# Altium integrated library Infineon_Power_MOSFET.IntLib: 1448 symbols (part 37 of 47)
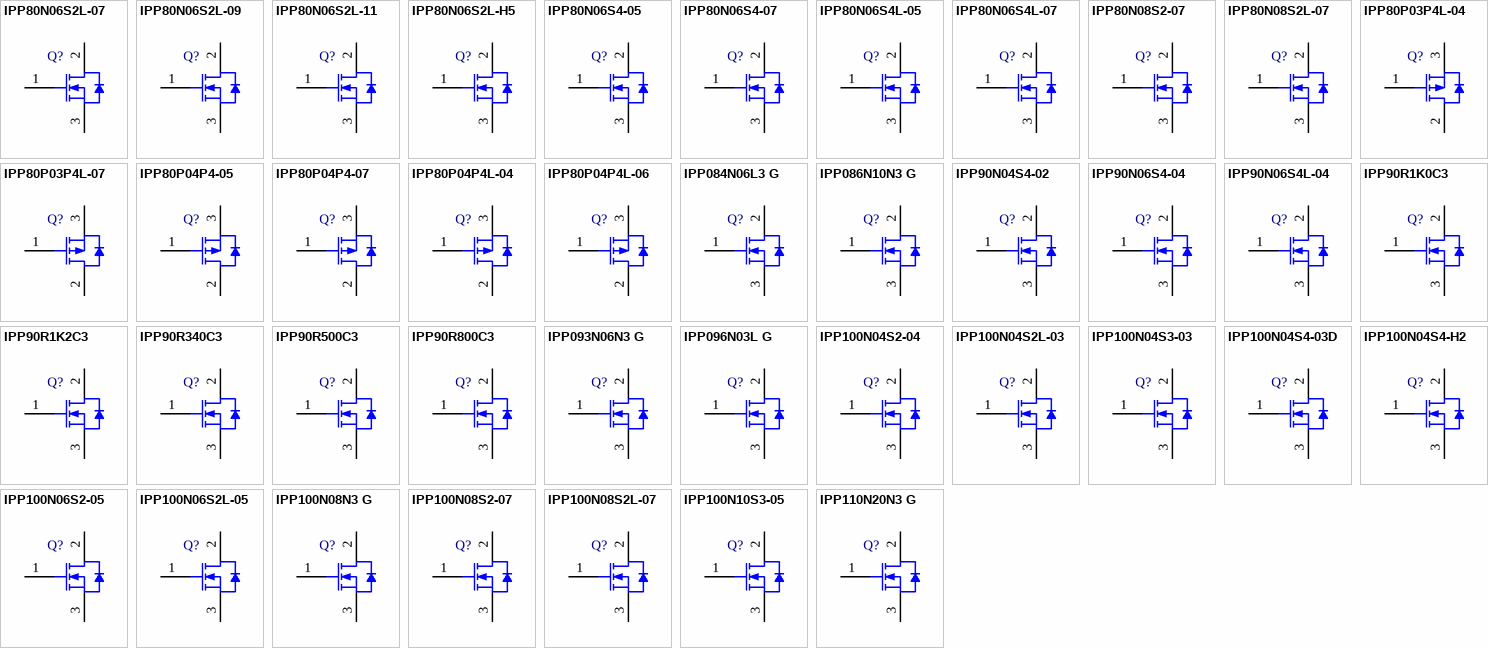
[diagram p73: symbols IPP80N06S2L-07 to IPP110N20N3 G]

## IPP80N06S2L-11
designator Q?
OptiMOS Power-Transistor, 55 V VDS, 80 A ID, PG-TO220-3-1, Tube, Green; Manufacturer: Infineon; PartNumber: IPP80N06S2L-11; Green: TRUE; ID (max): 80 A; IDpuls (max): 320 A; Ptot (max): 158 W; QG: 62 nC; RDS (on) (max) (@10V): 11 mOhm; RDS (on) (max) (@4.5V): 14.7 mOhm; RthJC (max): 0.95 K/W; VDS (max): 55 V; VGS(th) (max): 2 V; VGS(th) (min): 1.2 V; DatasheetVersion: Rev. 1.1; PackageVersion: Jul-12; PackageReference: PG-TO220-3-1; PackageDescription: 3-Pin Plastic (Green) Transistor Single Outline Package, 10 x 9.25 mm Body, 2.54 mm Pitch; Supplier 1: Mouser; Supplier Part Number 1: 726-IPP80N06S2L11; Supplier 2: Digi-Key; Supplier Part Number 2: IPP80N06S2L-11-ND; Halogen-free: TRUE; Packing: Tube; Technology: OptiMOS; Mounting Technology: Through Hole; ComponentLink1Description: Manufacturer URL; ComponentLink1URL: http://www.infineon.com/; ComponentLink2Description: Datasheet; ComponentLink2URL: http://www.infineon.com/dgdl/IPP_B_I80N06S2L-11_DS_1_1.pdf?folderId=db3a304412b407950112b426db703ad9&fileId=db3a304412b407950112b4333e375ac6&location=en.Products.Automotive_ICs.Automotive_MOSFETs.Single__N-Channel_55V_MOSFETs.DATASHEET.IPP_B_I80N06S2L-11_DS_1_1.pdf; ComponentLink3Description: Package Specification; ComponentLink3URL: http://www.infineon.com/dgdl/BTS117_DS_14.pdf?folderId=db3a30431400ef68011421b54e2e0564&fileId=db3a30433a747525013abff8302d549c&location=en.Products.Automotive_ICs.Smart_High-_and_Low-Side_Switches.HITFET___TEMPFET__-_Smart_Low-Side_Switches.DATASHEET.BTS117_DS_14.pdf
footprint INF-PG-TO220-3-1 (FM, 3-Leads, Body 10x4.4mm, Pitch 2.54mm)
pins: 1 GATE, 2 DRAIN, 3 SOURCE

## IPP80N06S2L-H5
designator Q?
OptiMOS Power-Transistor, 55 V VDS, 80 A ID, PG-TO220-3-1, Tube, Green; Manufacturer: Infineon; PartNumber: IPP80N06S2L-H5; Green: TRUE; ID (max): 80 A; IDpuls (max): 320 A; Ptot (max): 300 W; QG: 145 nC; RDS (on) (max) (@10V): 5 mOhm; RDS (on) (max) (@4.5V): 6.5 mOhm; RthJC (max): 0.5 K/W; VDS (max): 55 V; VGS(th) (max): 2 V; VGS(th) (min): 1.2 V; DatasheetVersion: Rev. 1.0; PackageVersion: Jul-12; PackageReference: PG-TO220-3-1; PackageDescription: 3-Pin Plastic (Green) Transistor Single Outline Package, 10 x 9.25 mm Body, 2.54 mm Pitch; Supplier 1: Mouser; Supplier Part Number 1: 726-IPP80N06S2LH5; Supplier 2: Digi-Key; Supplier Part Number 2: IPP80N06S2L-H5-ND; Halogen-free: TRUE; Packing: Tube; Technology: OptiMOS; Mounting Technology: Through Hole; ComponentLink1Description: Manufacturer URL; ComponentLink1URL: http://www.infineon.com/; ComponentLink2Description: Datasheet; ComponentLink2URL: http://www.infineon.com/dgdl/IPP_B80N06S2L-H5_green.pdf?folderId=db3a304412b407950112b426db703ad9&fileId=db3a304412b407950112b43338b15aa9&location=en.Products.Automotive_ICs.Automotive_MOSFETs.Single__N-Channel_55V_MOSFETs.DATASHEET.IPP_B80N06S2L-H5_green.pdf; ComponentLink3Description: Package Specification; ComponentLink3URL: http://www.infineon.com/dgdl/BTS117_DS_14.pdf?folderId=db3a30431400ef68011421b54e2e0564&fileId=db3a30433a747525013abff8302d549c&location=en.Products.Automotive_ICs.Smart_High-_and_Low-Side_Switches.HITFET___TEMPFET__-_Smart_Low-Side_Switches.DATASHEET.BTS117_DS_14.pdf
footprint INF-PG-TO220-3-1 (FM, 3-Leads, Body 10x4.4mm, Pitch 2.54mm)
pins: 1 GATE, 2 DRAIN, 3 SOURCE

## IPP80N06S4-05
designator Q?
OptiMOS-T2 Power-Transistor, 60 V VDS, 80 A ID, PG-TO220-3-1, Tube, Green; Manufacturer: Infineon; PartNumber: IPP80N06S4-05; Green: TRUE; ID (max): 80 A; IDpuls (max): 320 A; Ptot (max): 107 W; QG: 62 nC; RDS (on) (max) (@10V): 5.7 mOhm; RthJC (max): 1.4 K/W; VDS (max): 60 V; VGS(th) (max): 4 V; VGS(th) (min): 2 V; DatasheetVersion: Rev. 1.0; PackageVersion: Jul-12; PackageReference: PG-TO220-3-1; PackageDescription: 3-Pin Plastic (Green) Transistor Single Outline Package, 10 x 9.25 mm Body, 2.54 mm Pitch; Supplier 1: Mouser; Supplier Part Number 1: 726-IPP80N06S4-05; Supplier 2: Digi-Key; Supplier Part Number 2: IPP80N06S4-05-ND; Halogen-free: TRUE; Packing: Tube; Technology: OptiMOS-T2; Mounting Technology: Through Hole; ComponentLink1Description: Manufacturer URL; ComponentLink1URL: http://www.infineon.com/; ComponentLink2Description: Datasheet; ComponentLink2URL: http://www.infineon.com/dgdl/IPP_B_I80N06S4-05_DS_10.pdf?folderId=db3a30431a5c32f2011a8084a04a6500&fileId=db3a30431ff98815012038d4d5340cec&location=en.Products.Automotive_ICs.Automotive_MOSFETs.Single__N-Channel_60V_MOSFETs.DATASHEET.IPP_B_I80N06S4-05_DS_10.pdf; ComponentLink3Description: Package Specification; ComponentLink3URL: http://www.infineon.com/dgdl/BTS117_DS_14.pdf?folderId=db3a30431400ef68011421b54e2e0564&fileId=db3a30433a747525013abff8302d549c&location=en.Products.Automotive_ICs.Smart_High-_and_Low-Side_Switches.HITFET___TEMPFET__-_Smart_Low-Side_Switches.DATASHEET.BTS117_DS_14.pdf
footprint INF-PG-TO220-3-1 (FM, 3-Leads, Body 10x4.4mm, Pitch 2.54mm)
pins: 1 GATE, 2 DRAIN, 3 SOURCE

## IPP80N06S4-07
designator Q?
OptiMOS-T2 Power-Transistor, 60 V VDS, 80 A ID, PG-TO220-3-1, Tube, Green; Manufacturer: Infineon; PartNumber: IPP80N06S4-07; Green: TRUE; ID (max): 80 A; IDpuls (max): 320 A; Ptot (max): 79 W; QG: 43 nC; RDS (on) (max) (@10V): 7.4 mOhm; RthJC (max): 1.9 K/W; VDS (max): 60 V; VGS(th) (max): 4 V; VGS(th) (min): 2 V; DatasheetVersion: Rev. 1.0; PackageVersion: Jul-12; PackageReference: PG-TO220-3-1; PackageDescription: 3-Pin Plastic (Green) Transistor Single Outline Package, 10 x 9.25 mm Body, 2.54 mm Pitch; Supplier 1: Mouser; Supplier Part Number 1: 726-IPP80N06S4-07; Supplier 2: Digi-Key; Supplier Part Number 2: IPP80N06S4-07-ND; Halogen-free: TRUE; Packing: Tube; Technology: OptiMOS-T2; Mounting Technology: Through Hole; ComponentLink1Description: Manufacturer URL; ComponentLink1URL: http://www.infineon.com/; ComponentLink2Description: Datasheet; ComponentLink2URL: http://www.infineon.com/dgdl/IPP_B_I80N06S4-07_DS_10.pdf?folderId=db3a30431a5c32f2011a8084a04a6500&fileId=db3a30431ff98815012038dc68c00cf5&location=en.Products.Automotive_ICs.Automotive_MOSFETs.Single__N-Channel_60V_MOSFETs.DATASHEET.IPP_B_I80N06S4-07_DS_10.pdf; ComponentLink3Description: Package Specification; ComponentLink3URL: http://www.infineon.com/dgdl/BTS117_DS_14.pdf?folderId=db3a30431400ef68011421b54e2e0564&fileId=db3a30433a747525013abff8302d549c&location=en.Products.Automotive_ICs.Smart_High-_and_Low-Side_Switches.HITFET___TEMPFET__-_Smart_Low-Side_Switches.DATASHEET.BTS117_DS_14.pdf
footprint INF-PG-TO220-3-1 (FM, 3-Leads, Body 10x4.4mm, Pitch 2.54mm)
pins: 1 GATE, 2 DRAIN, 3 SOURCE

## IPP80N06S4L-05
designator Q?
OptiMOS-T2 Power-Transistor, 60 V VDS, 80 A ID, PG-TO220-3-1, Tube, Green; Manufacturer: Infineon; PartNumber: IPP80N06S4L-05; Green: TRUE; ID (max): 80 A; IDpuls (max): 320 A; Ptot (max): 107 W; QG: 83 nC; RDS (on) (max) (@10V): 4.8 mOhm; RDS (on) (max) (@4.5V): 8.5 mOhm; RthJC (max): 1.4 K/W; VDS (max): 60 V; VGS(th) (max): 2 V; VGS(th) (min): 1.2 V; DatasheetVersion: Rev. 1.0; PackageVersion: Jul-12; PackageReference: PG-TO220-3-1; PackageDescription: 3-Pin Plastic (Green) Transistor Single Outline Package, 10 x 9.25 mm Body, 2.54 mm Pitch; Supplier 1: Mouser; Supplier Part Number 1: 726-IPP80N06S4L-05; Supplier 2: Digi-Key; Supplier Part Number 2: IPP80N06S4L-05-ND; Halogen-free: TRUE; Packing: Tube; Technology: OptiMOS-T2; Mounting Technology: Through Hole; ComponentLink1Description: Manufacturer URL; ComponentLink1URL: http://www.infineon.com/; ComponentLink2Description: Datasheet; ComponentLink2URL: http://www.infineon.com/dgdl/IPP_B_I80N06S4L-05_DS_10.pdf?folderId=db3a30431a5c32f2011a8084a04a6500&fileId=db3a30431ff98815012038e65fed0d07&location=en.Products.Automotive_ICs.Automotive_MOSFETs.Single__N-Channel_60V_MOSFETs.DATASHEET.IPP_B_I80N06S4L-05_DS_10.pdf; ComponentLink3Description: Package Specification; ComponentLink3URL: http://www.infineon.com/dgdl/BTS117_DS_14.pdf?folderId=db3a30431400ef68011421b54e2e0564&fileId=db3a30433a747525013abff8302d549c&location=en.Products.Automotive_ICs.Smart_High-_and_Low-Side_Switches.HITFET___TEMPFET__-_Smart_Low-Side_Switches.DATASHEET.BTS117_DS_14.pdf
footprint INF-PG-TO220-3-1 (FM, 3-Leads, Body 10x4.4mm, Pitch 2.54mm)
pins: 1 GATE, 2 DRAIN, 3 SOURCE

## IPP80N06S4L-07
designator Q?
OptiMOS-T2 Power-Transistor, 60 V VDS, 80 A ID, PG-TO220-3-1, Tube, Green; Manufacturer: Infineon; PartNumber: IPP80N06S4L-07; Green: TRUE; ID (max): 80 A; IDpuls (max): 320 A; Ptot (max): 79 W; QG: 58 nC; RDS (on) (max) (@10V): 6.4 mOhm; RDS (on) (max) (@4.5V): 11.3 mOhm; RthJC (max): 1.9 K/W; VDS (max): 60 V; VGS(th) (max): 2 V; VGS(th) (min): 1.2 V; DatasheetVersion: Rev. 1.0; PackageVersion: Jul-12; PackageReference: PG-TO220-3-1; PackageDescription: 3-Pin Plastic (Green) Transistor Single Outline Package, 10 x 9.25 mm Body, 2.54 mm Pitch; Supplier 1: Mouser; Supplier Part Number 1: 726-IPP80N06S4L-07; Supplier 2: Digi-Key; Supplier Part Number 2: IPP80N06S4L-07-ND; Halogen-free: TRUE; Packing: Tube; Technology: OptiMOS-T2; Mounting Technology: Through Hole; ComponentLink1Description: Manufacturer URL; ComponentLink1URL: http://www.infineon.com/; ComponentLink2Description: Datasheet; ComponentLink2URL: http://www.infineon.com/dgdl/IPP_B_I80N06S4L-07_DS_10.pdf?folderId=db3a304320d39d590121aa3a89831c7f&fileId=db3a304320d39d590121aa3ae68d1c80&location=en.Products.Automotive_ICs.Automotive_MOSFETs.Single__N-Channel_60V_MOSFETs.DATASHEET.IPP_B_I80N06S4L-07_DS_10.pdf; ComponentLink3Description: Package Specification; ComponentLink3URL: http://www.infineon.com/dgdl/BTS117_DS_14.pdf?folderId=db3a30431400ef68011421b54e2e0564&fileId=db3a30433a747525013abff8302d549c&location=en.Products.Automotive_ICs.Smart_High-_and_Low-Side_Switches.HITFET___TEMPFET__-_Smart_Low-Side_Switches.DATASHEET.BTS117_DS_14.pdf
footprint INF-PG-TO220-3-1 (FM, 3-Leads, Body 10x4.4mm, Pitch 2.54mm)
pins: 1 GATE, 2 DRAIN, 3 SOURCE

## IPP80N08S2-07
designator Q?
OptiMOS Power-Transistor, 75 V VDS, 80 A ID, PG-TO220-3-1, Tube, Green; Manufacturer: Infineon; PartNumber: IPP80N08S2-07; Green: TRUE; ID (max): 80 A; IDpuls (max): 320 A; Ptot (max): 300 W; QG: 144 nC; RDS (on) (max) (@10V): 7.4 mOhm; RthJC (max): 0.5 K/W; VDS (max): 75 V; VGS(th) (max): 4 V; VGS(th) (min): 2.1 V; DatasheetVersion: Rev. 1.0; PackageVersion: Jul-12; PackageReference: PG-TO220-3-1; PackageDescription: 3-Pin Plastic (Green) Transistor Single Outline Package, 10 x 9.25 mm Body, 2.54 mm Pitch; Supplier 1: Mouser; Supplier Part Number 1: 726-IPP80N08S207; Supplier 2: Digi-Key; Supplier Part Number 2: IPP80N08S2-07-ND; Halogen-free: TRUE; Packing: Tube; Technology: OptiMOS; Mounting Technology: Through Hole; ComponentLink1Description: Manufacturer URL; ComponentLink1URL: http://www.infineon.com/; ComponentLink2Description: Datasheet; ComponentLink2URL: http://www.infineon.com/dgdl/IPP_B_I80N08S2-07_green.pdf?folderId=db3a304412b407950112b408e8c90004&fileId=db3a304412b407950112b426df983adf&location=en.Products.Automotive_ICs.Automotive_MOSFETs.Single__N-Channel_75V_MOSFETs.DATASHEET.IPP_B_I80N08S2-07_green.pdf; ComponentLink3Description: Package Specification; ComponentLink3URL: http://www.infineon.com/dgdl/BTS117_DS_14.pdf?folderId=db3a30431400ef68011421b54e2e0564&fileId=db3a30433a747525013abff8302d549c&location=en.Products.Automotive_ICs.Smart_High-_and_Low-Side_Switches.HITFET___TEMPFET__-_Smart_Low-Side_Switches.DATASHEET.BTS117_DS_14.pdf
footprint INF-PG-TO220-3-1 (FM, 3-Leads, Body 10x4.4mm, Pitch 2.54mm)
pins: 1 GATE, 2 DRAIN, 3 SOURCE

## IPP80N08S2L-07
designator Q?
OptiMOS Power-Transistor, 75 V VDS, 80 A ID, PG-TO220-3-1, Tube, Green; Manufacturer: Infineon; PartNumber: IPP80N08S2L-07; Green: TRUE; ID (max): 80 A; IDpuls (max): 320 A; Ptot (max): 300 W; QG: 183 nC; RDS (on) (max) (@10V): 7.1 mOhm; RDS (on) (max) (@4.5V): 9.0 mOhm; RthJC (max): 0.5 K/W; VDS (max): 75 V; VGS(th) (max): 2 V; VGS(th) (min): 1.2 V; DatasheetVersion: Rev. 1.0; PackageVersion: Jul-12; PackageReference: PG-TO220-3-1; PackageDescription: 3-Pin Plastic (Green) Transistor Single Outline Package, 10 x 9.25 mm Body, 2.54 mm Pitch; Supplier 1: Mouser; Supplier Part Number 1: 726-IPP80N08S2L07; Supplier 2: Digi-Key; Supplier Part Number 2: IPP80N08S2L-07-ND; Halogen-free: TRUE; Packing: Tube; Technology: OptiMOS; Mounting Technology: Through Hole; ComponentLink1Description: Manufacturer URL; ComponentLink1URL: http://www.infineon.com/; ComponentLink2Description: Datasheet; ComponentLink2URL: http://www.infineon.com/dgdl/IPP_B80N08S2L-07_green.pdf?folderId=db3a304412b407950112b408e8c90004&fileId=db3a304412b407950112b426e2333ae3&location=en.Products.Automotive_ICs.Automotive_MOSFETs.Single__N-Channel_75V_MOSFETs.DATASHEET.IPP_B80N08S2L-07_green.pdf; ComponentLink3Description: Package Specification; ComponentLink3URL: http://www.infineon.com/dgdl/BTS117_DS_14.pdf?folderId=db3a30431400ef68011421b54e2e0564&fileId=db3a30433a747525013abff8302d549c&location=en.Products.Automotive_ICs.Smart_High-_and_Low-Side_Switches.HITFET___TEMPFET__-_Smart_Low-Side_Switches.DATASHEET.BTS117_DS_14.pdf
footprint INF-PG-TO220-3-1 (FM, 3-Leads, Body 10x4.4mm, Pitch 2.54mm)
pins: 1 GATE, 2 DRAIN, 3 SOURCE

## IPP80P03P4L-04
designator Q?
OptiMOS-P2 Power-Transistor, -30 V VDS, -80 A ID, PG-TO220-3-1, Tube, Green; Manufacturer: Infineon; PartNumber: IPP80P03P4L-04; Green: TRUE; ID (max): -80 A; IDpuls (max): -320 A; Ptot (max): 137 W; QG: 125 nC; RDS (on) (max) (@10V): 4.4 mOhm; RDS (on) (max) (@4.5V): 7 mOhm; RthJC (max): 1.1 K/W; VDS (max): -30 V; VGS(th) (max): -2 V; VGS(th) (min): -1 V; DatasheetVersion: Rev. 1.0; PackageVersion: Jul-12; PackageReference: PG-TO220-3-1; PackageDescription: 3-Pin Plastic (Green) Transistor Single Outline Package, 10 x 9.25 mm Body, 2.54 mm Pitch; Supplier 1: Mouser; Supplier Part Number 1: 726-IPP80P03P4L-04; Supplier 2: Digi-Key; Supplier Part Number 2: IPP80P03P4L-04-ND; Halogen-free: TRUE; Packing: Tube; Technology: OptiMOS-P2; Mounting Technology: Through Hole; ComponentLink1Description: Manufacturer URL; ComponentLink1URL: http://www.infineon.com/; ComponentLink2Description: Datasheet; ComponentLink2URL: http://www.infineon.com/dgdl/IPP_B_I80P03P4L-04_DS_10.pdf?folderId=db3a304314dca3890114ef902baa05f9&fileId=db3a30431ddc9372011e07e95eb827d7&location=en.Products.Automotive_ICs.Automotive_MOSFETs.Single__P-Channel_30V_MOSFETs.DATASHEET.IPP_B_I80P03P4L-04_DS_10.pdf; ComponentLink3Description: Package Specification; ComponentLink3URL: http://www.infineon.com/dgdl/BTS117_DS_14.pdf?folderId=db3a30431400ef68011421b54e2e0564&fileId=db3a30433a747525013abff8302d549c&location=en.Products.Automotive_ICs.Smart_High-_and_Low-Side_Switches.HITFET___TEMPFET__-_Smart_Low-Side_Switches.DATASHEET.BTS117_DS_14.pdf
footprint INF-PG-TO220-3-1 (FM, 3-Leads, Body 10x4.4mm, Pitch 2.54mm)
pins: 1 GATE, 2 DRAIN, 3 SOURCE

## IPP80P03P4L-07
designator Q?
OptiMOS-P2 Power-Transistor, -30 V VDS, -80 A ID, PG-TO220-3-1, Tube, Green; Manufacturer: Infineon; PartNumber: IPP80P03P4L-07; Green: TRUE; ID (max): -80 A; IDpuls (max): -320 A; Ptot (max): 88 W; QG: 63 nC; RDS (on) (max) (@10V): 7.2 mOhm; RDS (on) (max) (@4.5V): 12.3 mOhm; RthJC (max): 1.7 K/W; VDS (max): -30 V; VGS(th) (max): -2 V; VGS(th) (min): -1 V; DatasheetVersion: Rev. 1.0; PackageVersion: Jul-12; PackageReference: PG-TO220-3-1; PackageDescription: 3-Pin Plastic (Green) Transistor Single Outline Package, 10 x 9.25 mm Body, 2.54 mm Pitch; Supplier 1: Mouser; Supplier Part Number 1: 726-IPP80P03P4L-07; Supplier 2: Digi-Key; Supplier Part Number 2: IPP80P03P4L-07-ND; Halogen-free: TRUE; Packing: Tube; Technology: OptiMOS-P2; Mounting Technology: Through Hole; ComponentLink1Description: Manufacturer URL; ComponentLink1URL: http://www.infineon.com/; ComponentLink2Description: Datasheet; ComponentLink2URL: http://www.infineon.com/dgdl/IPP_B_I80P03P4L-07_DS_10.pdf?folderId=db3a304314dca3890114ef902baa05f9&fileId=db3a30431ddc9372011e07ed65b827fd&location=en.Products.Automotive_ICs.Automotive_MOSFETs.Single__P-Channel_30V_MOSFETs.DATASHEET.IPP_B_I80P03P4L-07_DS_10.pdf; ComponentLink3Description: Package Specification; ComponentLink3URL: http://www.infineon.com/dgdl/BTS117_DS_14.pdf?folderId=db3a30431400ef68011421b54e2e0564&fileId=db3a30433a747525013abff8302d549c&location=en.Products.Automotive_ICs.Smart_High-_and_Low-Side_Switches.HITFET___TEMPFET__-_Smart_Low-Side_Switches.DATASHEET.BTS117_DS_14.pdf
footprint INF-PG-TO220-3-1 (FM, 3-Leads, Body 10x4.4mm, Pitch 2.54mm)
pins: 1 GATE, 2 DRAIN, 3 SOURCE

## IPP80P04P4-05
designator Q?
OptiMOS-P2 Power-Transistor, -40 V VDS, -80 A ID, PG-TO220-3-1, Tube, Green; Manufacturer: Infineon; PartNumber: IPP80P04P4-05; Green: TRUE; ID (max): -80 A; IDpuls (max): -320 A; Ptot (max): 125 W; QG: 116 nC; RDS (on) (max) (@10V): 5.2 mOhm; RthJC (max): 1.2 K/W; VDS (max): -40 V; VGS(th) (max): -4 V; VGS(th) (min): -2 V; DatasheetVersion: Rev. 1.0; PackageVersion: Jul-12; PackageReference: PG-TO220-3-1; PackageDescription: 3-Pin Plastic (Green) Transistor Single Outline Package, 10 x 9.25 mm Body, 2.54 mm Pitch; Supplier 1: Mouser; Supplier Part Number 1: 726-IPP80P04P4-05; Halogen-free: TRUE; Packing: Tube; Technology: OptiMOS-P2; Mounting Technology: Through Hole; ComponentLink1Description: Manufacturer URL; ComponentLink1URL: http://www.infineon.com/; ComponentLink2Description: Datasheet; ComponentLink2URL: http://www.infineon.com/dgdl/IPP_B_I80P04P4-05_DS_10.pdf?folderId=db3a304412b407950112b42b75b74520&fileId=db3a30432f69f146012f7833bcf12e3a&location=en.Products.Automotive_ICs.Automotive_MOSFETs.Single__P-Channel_40V_MOSFETs.DATASHEET.IPP_B_I80P04P4-05_DS_10.pdf; ComponentLink3Description: Package Specification; ComponentLink3URL: http://www.infineon.com/dgdl/BTS117_DS_14.pdf?folderId=db3a30431400ef68011421b54e2e0564&fileId=db3a30433a747525013abff8302d549c&location=en.Products.Automotive_ICs.Smart_High-_and_Low-Side_Switches.HITFET___TEMPFET__-_Smart_Low-Side_Switches.DATASHEET.BTS117_DS_14.pdf
footprint INF-PG-TO220-3-1 (FM, 3-Leads, Body 10x4.4mm, Pitch 2.54mm)
pins: 1 GATE, 2 DRAIN, 3 SOURCE

## IPP80P04P4-07
designator Q?
OptiMOS-P2 Power-Transistor, -40 V VDS, -80 A ID, PG-TO220-3-1, Tube, Green; Manufacturer: Infineon; PartNumber: IPP80P04P4-07; Green: TRUE; ID (max): -80 A; IDpuls (max): -320 A; Ptot (max): 88 W; QG: 68 nC; RDS (on) (max) (@10V): 7.7 mOhm; RthJC (max): 1.7 K/W; VDS (max): -40 V; VGS(th) (max): -4 V; VGS(th) (min): -2 V; DatasheetVersion: Rev. 1.0; PackageVersion: Jul-12; PackageReference: PG-TO220-3-1; PackageDescription: 3-Pin Plastic (Green) Transistor Single Outline Package, 10 x 9.25 mm Body, 2.54 mm Pitch; Supplier 1: Mouser; Supplier Part Number 1: 726-IPP80P04P4-07; Halogen-free: TRUE; Packing: Tube; Technology: OptiMOS-P2; Mounting Technology: Through Hole; ComponentLink1Description: Manufacturer URL; ComponentLink1URL: http://www.infineon.com/; ComponentLink2Description: Datasheet; ComponentLink2URL: http://www.infineon.com/dgdl/IPP_B_I80P04P4-07_DS_10.pdf?folderId=db3a304412b407950112b42b75b74520&fileId=db3a30432f69f146012f783099142e25&location=en.Products.Automotive_ICs.Automotive_MOSFETs.Single__P-Channel_40V_MOSFETs.DATASHEET.IPP_B_I80P04P4-07_DS_10.pdf; ComponentLink3Description: Package Specification; ComponentLink3URL: http://www.infineon.com/dgdl/BTS117_DS_14.pdf?folderId=db3a30431400ef68011421b54e2e0564&fileId=db3a30433a747525013abff8302d549c&location=en.Products.Automotive_ICs.Smart_High-_and_Low-Side_Switches.HITFET___TEMPFET__-_Smart_Low-Side_Switches.DATASHEET.BTS117_DS_14.pdf
footprint INF-PG-TO220-3-1 (FM, 3-Leads, Body 10x4.4mm, Pitch 2.54mm)
pins: 1 GATE, 2 DRAIN, 3 SOURCE

## IPP80P04P4L-04
designator Q?
OptiMOS-P2 Power-Transistor, -40 V VDS, -80 A ID, PG-TO220-3-1, Tube, Green; Manufacturer: Infineon; PartNumber: IPP80P04P4L-04; Green: TRUE; ID (max): -80 A; IDpuls (max): -320 A; Ptot (max): 125 W; QG: 135 nC; RDS (on) (max) (@10V): 4.4 mOhm; RDS (on) (max) (@4.5V): 6.8 mOhm; RthJC (max): 1.2 K/W; VDS (max): -40 V; VGS(th) (max): -2.2 V; VGS(th) (min): -1.2 V; DatasheetVersion: Rev. 1.0; PackageVersion: Jul-12; PackageReference: PG-TO220-3-1; PackageDescription: 3-Pin Plastic (Green) Transistor Single Outline Package, 10 x 9.25 mm Body, 2.54 mm Pitch; Supplier 1: Mouser; Supplier Part Number 1: 726-IPP80P04P4L-04; Halogen-free: TRUE; Packing: Tube; Technology: OptiMOS-P2; Mounting Technology: Through Hole; ComponentLink1Description: Manufacturer URL; ComponentLink1URL: http://www.infineon.com/; ComponentLink2Description: Datasheet; ComponentLink2URL: http://www.infineon.com/dgdl/IPP_B_I80P04P4L-04_DS_10.pdf?folderId=db3a304412b407950112b42b75b74520&fileId=db3a30432f69f146012f783241fb2e2a&location=en.Products.Automotive_ICs.Automotive_MOSFETs.Single__P-Channel_40V_MOSFETs.DATASHEET.IPP_B_I80P04P4L-04_DS_10.pdf; ComponentLink3Description: Package Specification; ComponentLink3URL: http://www.infineon.com/dgdl/BTS117_DS_14.pdf?folderId=db3a30431400ef68011421b54e2e0564&fileId=db3a30433a747525013abff8302d549c&location=en.Products.Automotive_ICs.Smart_High-_and_Low-Side_Switches.HITFET___TEMPFET__-_Smart_Low-Side_Switches.DATASHEET.BTS117_DS_14.pdf
footprint INF-PG-TO220-3-1 (FM, 3-Leads, Body 10x4.4mm, Pitch 2.54mm)
pins: 1 GATE, 2 DRAIN, 3 SOURCE

## IPP80P04P4L-06
designator Q?
OptiMOS-P2 Power-Transistor, -40 V VDS, -80 A ID, PG-TO220-3-1, Tube, Green; Manufacturer: Infineon; PartNumber: IPP80P04P4L-06; Green: TRUE; ID (max): -80 A; IDpuls (max): -320 A; Ptot (max): 88 W; QG: 80 nC; RDS (on) (max) (@10V): 6.7 mOhm; RDS (on) (max) (@4.5V): 10.8 mOhm; RthJC (max): 1.7 K/W; VDS (max): -40 V; VGS(th) (max): -2.2 V; VGS(th) (min): -1.2 V; DatasheetVersion: Rev. 1.0; PackageVersion: Jul-12; PackageReference: PG-TO220-3-1; PackageDescription: 3-Pin Plastic (Green) Transistor Single Outline Package, 10 x 9.25 mm Body, 2.54 mm Pitch; Supplier 1: Mouser; Supplier Part Number 1: 726-IPP80P04P4L-06; Halogen-free: TRUE; Packing: Tube; Technology: OptiMOS-P2; Mounting Technology: Through Hole; ComponentLink1Description: Manufacturer URL; ComponentLink1URL: http://www.infineon.com/; ComponentLink2Description: Datasheet; ComponentLink2URL: http://www.infineon.com/dgdl/IPP_B_I80P04P4L-06_DS_10.pdf?folderId=db3a304412b407950112b42b75b74520&fileId=db3a30432f69f146012f782f18402e14&location=en.Products.Automotive_ICs.Automotive_MOSFETs.Single__P-Channel_40V_MOSFETs.DATASHEET.IPP_B_I80P04P4L-06_DS_10.pdf; ComponentLink3Description: Package Specification; ComponentLink3URL: http://www.infineon.com/dgdl/BTS117_DS_14.pdf?folderId=db3a30431400ef68011421b54e2e0564&fileId=db3a30433a747525013abff8302d549c&location=en.Products.Automotive_ICs.Smart_High-_and_Low-Side_Switches.HITFET___TEMPFET__-_Smart_Low-Side_Switches.DATASHEET.BTS117_DS_14.pdf
footprint INF-PG-TO220-3-1 (FM, 3-Leads, Body 10x4.4mm, Pitch 2.54mm)
pins: 1 GATE, 2 DRAIN, 3 SOURCE

## IPP084N06L3 G
designator Q?
N-Channel OptiMOS 3 Power-Transistor, 60 V VDS, 50 A ID, -55 to 175 degC, PG-TO220-3-1, Tube, Green; Manufacturer: Infineon; PartNumber: IPP084N06L3 G; Green: TRUE; ID (max): 50 A; IDpuls (max): 200 A; Polarity: N; Ptot (max): 79 W; QG: 22 nC; RDS (on) (max): 8.4 mOhm; RDS (on) (max) (@4.5V): 14.3 mOhm; Rth: 1.9 K/W; RthJA (max): 62 K/W; VDS (max): 60 V; VGS(th) (max): 2.2 V; VGS(th) (min): 1.2 V; DatasheetVersion: Rev. 2.23; PackageVersion: Rev. 05, 08/2007; PackageReference: PG-TO220-3-1; PackageDescription: 3-Pin Plastic (Green) Transistor Single Outline Package, 10.03 x 8.98 mm Body, 2.54 mm Pitch; Supplier 1: Mouser; Supplier Part Number 1: 726-IPP084N06L3G; Supplier 2: Digi-Key; Supplier Part Number 2: IPP084N06L3 G-ND; Halogen-free: TRUE; Packing: Tube; RthJC (max): 1.9 K/W; Mounting Technology: Through Hole; ComponentLink1Description: Manufacturer URL; ComponentLink1URL: http://www.infineon.com/; ComponentLink2Description: Datasheet; ComponentLink2URL: http://www.infineon.com/dgdl/IPP_B084N06L3_Rev2.23.pdf?folderId=db3a304313b8b5a60113cee8763b02d7&fileId=db3a30431b3e89eb011b4592273f7db2; ComponentLink3Description: Package Specification; ComponentLink3URL: http://www.infineon.com/dgdl/IPP028N08N3_Rev1%5B1%5D.0.pdf?folderId=db3a304313b8b5a60113cee8763b02d7&fileId=db3a30432313ff5e0123a3c08e7326b5
footprint INF-PG-TO220-3-1_A_V (FM, 3-Leads, Body 10.03x8.98mm, Pitch 2.54mm)
pins: 1 GATE, 2 DRAIN, 3 SOURCE

## IPP086N10N3 G
designator Q?
N-Channel OptiMOS 3 Power-Transistor, 100 V VDS, 80 A ID, -55 to 175 degC, PG-TO220-3-1, Tube, Green; Manufacturer: Infineon; PartNumber: IPP086N10N3 G; Green: TRUE; ID (max): 80 A; IDpuls (max): 320 A; Polarity: N; Ptot (max): 125 W; QG: 42 nC; RDS (on) (max): 8.6 mOhm; Rth: 1.2 K/W; RthJA (max): 62 K/W; VDS (max): 100 V; VGS(th) (max): 3.5 V; VGS(th) (min): 2 V; DatasheetVersion: Rev. 2.5; PackageVersion: Rev. 05, 08/2007; PackageReference: PG-TO220-3-1; PackageDescription: 3-Pin Plastic (Green) Transistor Single Outline Package, 10.03 x 8.98 mm Body, 2.54 mm Pitch; Supplier 1: Mouser; Supplier Part Number 1: 726-IPP086N10N3G; Supplier 2: Digi-Key; Supplier Part Number 2: IPP086N10N3 G-ND; Halogen-free: TRUE; Packing: Tube; RthJC (max): 1.2 K/W; Mounting Technology: Through Hole; ComponentLink1Description: Manufacturer URL; ComponentLink1URL: http://www.infineon.com/; ComponentLink2Description: Datasheet; ComponentLink2URL: http://www.infineon.com/dgdl/IPP086N10N3+G_Rev2.5.pdf?folderId=db3a304313b8b5a60113cee8763b02d7&fileId=db3a30431ce5fb52011d1ac5c8fa1358; ComponentLink3Description: Package Specification; ComponentLink3URL: http://www.infineon.com/dgdl/IPP028N08N3_Rev1%5B1%5D.0.pdf?folderId=db3a304313b8b5a60113cee8763b02d7&fileId=db3a30432313ff5e0123a3c08e7326b5
footprint INF-PG-TO220-3-1_A_V (FM, 3-Leads, Body 10.03x8.98mm, Pitch 2.54mm)
pins: 1 GATE, 2 DRAIN, 3 SOURCE

## IPP90N04S4-02
designator Q?
OptiMOS-T2 Power-Transistor, 40 V VDS, 90 A ID, PG-TO220-3-1, Tube, Green; Manufacturer: Infineon; PartNumber: IPP90N04S4-02; Green: TRUE; ID (max): 90 A; IDpuls (max): 360 A; Ptot (max): 150 W; QG: 91 nC; RDS (on) (max) (@10V): 2.5 mOhm; RthJC (max): 1 K/W; VDS (max): 40 V; VGS(th) (max): 4 V; VGS(th) (min): 2 V; DatasheetVersion: Rev. 1.1; PackageVersion: Jul-12; PackageReference: PG-TO220-3-1; PackageDescription: 3-Pin Plastic (Green) Transistor Single Outline Package, 10 x 9.25 mm Body, 2.54 mm Pitch; Supplier 1: Mouser; Supplier Part Number 1: 726-IPP90N04S4-02; Supplier 2: Digi-Key; Supplier Part Number 2: IPP90N04S4-02-ND; Halogen-free: TRUE; Packing: Tube; Technology: OptiMOS-T2; Mounting Technology: Through Hole; ComponentLink1Description: Manufacturer URL; ComponentLink1URL: http://www.infineon.com/; ComponentLink2Description: Datasheet; ComponentLink2URL: http://www.infineon.com/dgdl/IPP-B-I90N04S4-02-1_1.pdf?folderId=db3a304412b407950112b42b75b74520&fileId=db3a304328c6bd5c01291c7efe515e2f&location=en.Products.Automotive_ICs.Automotive_MOSFETs.Single__N-Channel_40V_MOSFETs.DATASHEET.IPP-B-I90N04S4-02-1_1.pdf; ComponentLink3Description: Package Specification; ComponentLink3URL: http://www.infineon.com/dgdl/BTS117_DS_14.pdf?folderId=db3a30431400ef68011421b54e2e0564&fileId=db3a30433a747525013abff8302d549c&location=en.Products.Automotive_ICs.Smart_High-_and_Low-Side_Switches.HITFET___TEMPFET__-_Smart_Low-Side_Switches.DATASHEET.BTS117_DS_14.pdf
footprint INF-PG-TO220-3-1 (FM, 3-Leads, Body 10x4.4mm, Pitch 2.54mm)
pins: 1 GATE, 2 DRAIN, 3 SOURCE

## IPP90N06S4-04
designator Q?
OptiMOS-T2 Power-Transistor, 60 V VDS, 90 A ID, PG-TO220-3-1, Tube, Green; Manufacturer: Infineon; PartNumber: IPP90N06S4-04; Green: TRUE; ID (max): 90 A; IDpuls (max): 360 A; Ptot (max): 150 W; QG: 99 nC; RDS (on) (max) (@10V): 4 mOhm; RthJC (max): 1 K/W; VDS (max): 60 V; VGS(th) (max): 4 V; VGS(th) (min): 2 V; DatasheetVersion: Rev. 1.2; PackageVersion: Jul-12; PackageReference: PG-TO220-3-1; PackageDescription: 3-Pin Plastic (Green) Transistor Single Outline Package, 10 x 9.25 mm Body, 2.54 mm Pitch; Supplier 1: Mouser; Supplier Part Number 1: 726-IPP90N06S4-04; Supplier 2: Digi-Key; Supplier Part Number 2: IPP90N06S4-04-ND; Halogen-free: TRUE; Packing: Tube; Technology: OptiMOS-T2; Mounting Technology: Through Hole; ComponentLink1Description: Manufacturer URL; ComponentLink1URL: http://www.infineon.com/; ComponentLink2Description: Datasheet; ComponentLink2URL: http://www.infineon.com/dgdl/IPP_B_I90N06S4-04_DS_12.pdf?folderId=db3a30431a5c32f2011a8084a04a6500&fileId=db3a30431ff98815012038cce6020cda&location=en.Products.Automotive_ICs.Automotive_MOSFETs.Single__N-Channel_60V_MOSFETs.DATASHEET.IPP_B_I90N06S4-04_DS_12.pdf; ComponentLink3Description: Package Specification; ComponentLink3URL: http://www.infineon.com/dgdl/BTS117_DS_14.pdf?folderId=db3a30431400ef68011421b54e2e0564&fileId=db3a30433a747525013abff8302d549c&location=en.Products.Automotive_ICs.Smart_High-_and_Low-Side_Switches.HITFET___TEMPFET__-_Smart_Low-Side_Switches.DATASHEET.BTS117_DS_14.pdf
footprint INF-PG-TO220-3-1 (FM, 3-Leads, Body 10x4.4mm, Pitch 2.54mm)
pins: 1 GATE, 2 DRAIN, 3 SOURCE

## IPP90N06S4L-04
designator Q?
OptiMOS-T2 Power-Transistor, 60 V VDS, 90 A ID, PG-TO220-3-1, Tube, Green; Manufacturer: Infineon; PartNumber: IPP90N06S4L-04; Green: TRUE; ID (max): 90 A; IDpuls (max): 360 A; Ptot (max): 150 W; QG: 133 nC; RDS (on) (max) (@10V): 3.7 mOhm; RDS (on) (max) (@4.5V): 5.9 mOhm; RthJC (max): 1 K/W; VDS (max): 60 V; VGS(th) (max): 2.2 V; VGS(th) (min): 1.2 V; DatasheetVersion: Rev. 1.0; PackageVersion: Jul-12; PackageReference: PG-TO220-3-1; PackageDescription: 3-Pin Plastic (Green) Transistor Single Outline Package, 10 x 9.25 mm Body, 2.54 mm Pitch; Supplier 1: Mouser; Supplier Part Number 1: 726-IPP90N06S4L-04; Supplier 2: Digi-Key; Supplier Part Number 2: IPP90N06S4L-04-ND; Halogen-free: TRUE; Packing: Tube; Technology: OptiMOS-T2; Mounting Technology: Through Hole; ComponentLink1Description: Manufacturer URL; ComponentLink1URL: http://www.infineon.com/; ComponentLink2Description: Datasheet; ComponentLink2URL: http://www.infineon.com/dgdl/IPP_B_I90N06S4L-04_DS_10.pdf?folderId=db3a30431a5c32f2011a8084a04a6500&fileId=db3a30431ff98815012038d111570ce3&location=en.Products.Automotive_ICs.Automotive_MOSFETs.Single__N-Channel_60V_MOSFETs.DATASHEET.IPP_B_I90N06S4L-04_DS_10.pdf; ComponentLink3Description: Package Specification; ComponentLink3URL: http://www.infineon.com/dgdl/BTS117_DS_14.pdf?folderId=db3a30431400ef68011421b54e2e0564&fileId=db3a30433a747525013abff8302d549c&location=en.Products.Automotive_ICs.Smart_High-_and_Low-Side_Switches.HITFET___TEMPFET__-_Smart_Low-Side_Switches.DATASHEET.BTS117_DS_14.pdf
footprint INF-PG-TO220-3-1 (FM, 3-Leads, Body 10x4.4mm, Pitch 2.54mm)
pins: 1 GATE, 2 DRAIN, 3 SOURCE

## IPP90R1K0C3
designator Q?
N-Channel CoolMOS Power-Transistor, 900 V VDS, 5.7 A ID, -55 to 150 degC, PG-TO220-3-1, Tube, Green; Manufacturer: Infineon; PartNumber: IPP90R1K0C3; Green: TRUE; ID (max): 5.7 A; IDpuls (max): 12 A; Polarity: N; Ptot (max): 89 W; QG: 34 nC; RDS (on) (max): 1,000 mOhm; Rth: 1.4 K/W; RthJA (max): 62 K/W; VDS (max): 900 V; VGS(th) (max): 3.5 V; VGS(th) (min): 2.5 V; DatasheetVersion: Rev. 1.0; PackageVersion: Jul-12; PackageReference: PG-TO220-3-1; PackageDescription: 3-Pin Plastic (Green) Transistor Single Outline Package, 10 x 9.25 mm Body, 2.54 mm Pitch; Supplier 1: Mouser; Supplier Part Number 1: 726-IPP90R1K0C3; Supplier 2: Digi-Key; Supplier Part Number 2: IPP90R1K0C3-ND; Halogen-free: TRUE; Packing: Tube; RthJC (max): 1.4 K/W; Technology: CoolMOS C3; Mounting Technology: Through Hole; ComponentLink1Description: Manufacturer URL; ComponentLink1URL: http://www.infineon.com/; ComponentLink2Description: Datasheet; ComponentLink2URL: http://www.infineon.com/dgdl/IPP90R1K0C3_1%5B1%5D.0.pdf?folderId=db3a30432313ff5e0123a8557b1c5ba2&fileId=db3a30432313ff5e0123a88d39df5bf4; ComponentLink3Description: Package Specification; ComponentLink3URL: http://www.infineon.com/dgdl/BTS117_DS_14.pdf?folderId=db3a30431400ef68011421b54e2e0564&fileId=db3a30433a747525013abff8302d549c&location=en.Products.Automotive_ICs.Smart_High-_and_Low-Side_Switches.HITFET___TEMPFET__-_Smart_Low-Side_Switches.DATASHEET.BTS117_DS_14.pdf
footprint INF-PG-TO220-3-1 (FM, 3-Leads, Body 10x4.4mm, Pitch 2.54mm)
pins: 1 GATE, 2 DRAIN, 3 SOURCE

## IPP90R1K2C3
designator Q?
N-Channel CoolMOS Power-Transistor, 900 V VDS, 5.1 A ID, -55 to 150 degC, PG-TO220-3-1, Tube, Green; Manufacturer: Infineon; PartNumber: IPP90R1K2C3; Green: TRUE; ID (max): 5.1 A; IDpuls (max): 10 A; Polarity: N; Ptot (max): 83 W; QG: 28 nC; RDS (on) (max): 1,200 mOhm; Rth: 1.5 K/W; RthJA (max): 62 K/W; VDS (max): 900 V; VGS(th) (max): 3.5 V; VGS(th) (min): 2.5 V; DatasheetVersion: Rev. 1.0; PackageVersion: Jul-12; PackageReference: PG-TO220-3-1; PackageDescription: 3-Pin Plastic (Green) Transistor Single Outline Package, 10 x 9.25 mm Body, 2.54 mm Pitch; Supplier 1: Mouser; Supplier Part Number 1: 726-IPP90R1K2C3; Supplier 2: Newark; Supplier Part Number 2: 33P7183; Supplier 3: Farnell; Supplier Part Number 3: 1664071; Supplier 4: Digi-Key; Supplier Part Number 4: IPP90R1K2C3-ND; Halogen-free: TRUE; Packing: Tube; RthJC (max): 1.5 K/W; Technology: CoolMOS C3; Mounting Technology: Through Hole; ComponentLink1Description: Manufacturer URL; ComponentLink1URL: http://www.infineon.com/; ComponentLink2Description: Datasheet; ComponentLink2URL: http://www.infineon.com/dgdl/IPP90R1K2C3_1%5B1%5D.0.pdf?folderId=db3a30432313ff5e0123a8557b1c5ba2&fileId=db3a30432313ff5e0123a89fe8085c04; ComponentLink3Description: Package Specification; ComponentLink3URL: http://www.infineon.com/dgdl/BTS117_DS_14.pdf?folderId=db3a30431400ef68011421b54e2e0564&fileId=db3a30433a747525013abff8302d549c&location=en.Products.Automotive_ICs.Smart_High-_and_Low-Side_Switches.HITFET___TEMPFET__-_Smart_Low-Side_Switches.DATASHEET.BTS117_DS_14.pdf
footprint INF-PG-TO220-3-1 (FM, 3-Leads, Body 10x4.4mm, Pitch 2.54mm)
pins: 1 GATE, 2 DRAIN, 3 SOURCE

## IPP90R340C3
designator Q?
N-Channel CoolMOS Power-Transistor, 900 V VDS, 15 A ID, -55 to 150 degC, PG-TO220-3-1, Tube, Green; Manufacturer: Infineon; PartNumber: IPP90R340C3; Green: TRUE; ID (max): 15 A; IDpuls (max): 34 A; Polarity: N; Ptot (max): 208 W; QG: 94 nC; RDS (on) (max): 340 mOhm; Rth: 0.6 K/W; RthJA (max): 62 K/W; VDS (max): 900 V; VGS(th) (max): 3.5 V; VGS(th) (min): 2.5 V; DatasheetVersion: Rev. 1.1; PackageVersion: Jul-12; PackageReference: PG-TO220-3-1; PackageDescription: 3-Pin Plastic (Green) Transistor Single Outline Package, 10 x 9.25 mm Body, 2.54 mm Pitch; Supplier 1: Mouser; Supplier Part Number 1: 726-IPP90R340C3; Supplier 2: Digi-Key; Supplier Part Number 2: IPP90R340C3-ND; Halogen-free: TRUE; Packing: Tube; RthJC (max): 0.6 K/W; Technology: CoolMOS C3; Mounting Technology: Through Hole; ComponentLink1Description: Manufacturer URL; ComponentLink1URL: http://www.infineon.com/; ComponentLink2Description: Datasheet; ComponentLink2URL: http://www.infineon.com/dgdl/IPP90R340C3_1.1.pdf?folderId=db3a30432313ff5e0123a8557b1c5ba2&fileId=db3a30432313ff5e0123a8a4f73e5c14; ComponentLink3Description: Package Specification; ComponentLink3URL: http://www.infineon.com/dgdl/BTS117_DS_14.pdf?folderId=db3a30431400ef68011421b54e2e0564&fileId=db3a30433a747525013abff8302d549c&location=en.Products.Automotive_ICs.Smart_High-_and_Low-Side_Switches.HITFET___TEMPFET__-_Smart_Low-Side_Switches.DATASHEET.BTS117_DS_14.pdf
footprint INF-PG-TO220-3-1 (FM, 3-Leads, Body 10x4.4mm, Pitch 2.54mm)
pins: 1 GATE, 2 DRAIN, 3 SOURCE

## IPP90R500C3
designator Q?
N-Channel CoolMOS Power-Transistor, 900 V VDS, 11 A ID, -55 to 150 degC, PG-TO220-3-1, Tube, Green; Manufacturer: Infineon; PartNumber: IPP90R500C3; Green: TRUE; ID (max): 11 A; IDpuls (max): 24 A; Polarity: N; Ptot (max): 156 W; QG: 68 nC; RDS (on) (max): 500 mOhm; Rth: 0.8 K/W; RthJA (max): 62 K/W; VDS (max): 900 V; VGS(th) (max): 3.5 V; VGS(th) (min): 2.5 V; DatasheetVersion: Rev. 1.0; PackageVersion: Jul-12; PackageReference: PG-TO220-3-1; PackageDescription: 3-Pin Plastic (Green) Transistor Single Outline Package, 10 x 9.25 mm Body, 2.54 mm Pitch; Supplier 1: Mouser; Supplier Part Number 1: 726-IPP90R500C3; Supplier 2: Digi-Key; Supplier Part Number 2: IPP90R500C3-ND; Halogen-free: TRUE; Packing: Tube; RthJC (max): 0.8 K/W; Technology: CoolMOS C3; Mounting Technology: Through Hole; ComponentLink1Description: Manufacturer URL; ComponentLink1URL: http://www.infineon.com/; ComponentLink2Description: Datasheet; ComponentLink2URL: http://www.infineon.com/dgdl/IPP90R500C3_1%5B1%5D.0.pdf?folderId=db3a30432313ff5e0123a8557b1c5ba2&fileId=db3a30432313ff5e0123a8acd7d05c24; ComponentLink3Description: Package Specification; ComponentLink3URL: http://www.infineon.com/dgdl/BTS117_DS_14.pdf?folderId=db3a30431400ef68011421b54e2e0564&fileId=db3a30433a747525013abff8302d549c&location=en.Products.Automotive_ICs.Smart_High-_and_Low-Side_Switches.HITFET___TEMPFET__-_Smart_Low-Side_Switches.DATASHEET.BTS117_DS_14.pdf
footprint INF-PG-TO220-3-1 (FM, 3-Leads, Body 10x4.4mm, Pitch 2.54mm)
pins: 1 GATE, 2 DRAIN, 3 SOURCE

## IPP90R800C3
designator Q?
N-Channel CoolMOS Power-Transistor, 900 V VDS, 6.9 A ID, -55 to 150 degC, PG-TO220-3-1, Tube, Green; Manufacturer: Infineon; PartNumber: IPP90R800C3; Green: TRUE; ID (max): 6.9 A; IDpuls (max): 15 A; Polarity: N; Ptot (max): 104 W; QG: 42 nC; RDS (on) (max): 800 mOhm; Rth: 1.2 K/W; RthJA (max): 62 K/W; VDS (max): 900 V; VGS(th) (max): 3.5 V; VGS(th) (min): 2.5 V; DatasheetVersion: Rev. 1.0; PackageVersion: Jul-12; PackageReference: PG-TO220-3-1; PackageDescription: 3-Pin Plastic (Green) Transistor Single Outline Package, 10 x 9.25 mm Body, 2.54 mm Pitch; Supplier 1: Mouser; Supplier Part Number 1: 726-IPP90R800C3; Supplier 2: Digi-Key; Supplier Part Number 2: IPP90R800C3-ND; Halogen-free: TRUE; Packing: Tube; RthJC (max): 1.2 K/W; Technology: CoolMOS C3; Mounting Technology: Through Hole; ComponentLink1Description: Manufacturer URL; ComponentLink1URL: http://www.infineon.com/; ComponentLink2Description: Datasheet; ComponentLink2URL: http://www.infineon.com/dgdl/IPP90R800C3_1%5B1%5D.0.pdf?folderId=db3a30432313ff5e0123a8557b1c5ba2&fileId=db3a30432313ff5e0123a8b1344d5c34; ComponentLink3Description: Package Specification; ComponentLink3URL: http://www.infineon.com/dgdl/BTS117_DS_14.pdf?folderId=db3a30431400ef68011421b54e2e0564&fileId=db3a30433a747525013abff8302d549c&location=en.Products.Automotive_ICs.Smart_High-_and_Low-Side_Switches.HITFET___TEMPFET__-_Smart_Low-Side_Switches.DATASHEET.BTS117_DS_14.pdf
footprint INF-PG-TO220-3-1 (FM, 3-Leads, Body 10x4.4mm, Pitch 2.54mm)
pins: 1 GATE, 2 DRAIN, 3 SOURCE

## IPP093N06N3 G
designator Q?
N-Channel OptiMOS 3 Power-Transistor, 60 V VDS, 50 A ID, -55 to 175 degC, PG-TO220-3-1, Tube, Green; Manufacturer: Infineon; PartNumber: IPP093N06N3 G; Green: TRUE; ID (max): 50 A; IDpuls (max): 200 A; Polarity: N; Ptot (max): 71 W; QG: 36 nC; RDS (on) (max): 9.3 mOhm; Rth: 1.6 K/W; RthJA (max): 62 K/W; VDS (max): 60 V; VGS(th) (max): 4 V; VGS(th) (min): 2 V; DatasheetVersion: Rev. 1.2; PackageVersion: Rev. 05, 08/2007; PackageReference: PG-TO220-3-1; PackageDescription: 3-Pin Plastic (Green) Transistor Single Outline Package, 10.03 x 8.98 mm Body, 2.54 mm Pitch; Supplier 1: Mouser; Supplier Part Number 1: 726-IPP093N06N3G; Supplier 2: Digi-Key; Supplier Part Number 2: IPP093N06N3 G-ND; Halogen-free: TRUE; Packing: Tube; RthJC (max): 1.6 K/W; Mounting Technology: Through Hole; ComponentLink1Description: Manufacturer URL; ComponentLink1URL: http://www.infineon.com/; ComponentLink2Description: Datasheet; ComponentLink2URL: http://www.infineon.com/dgdl/IPP_B093N06N3_Rev1.2.pdf?folderId=db3a304313b8b5a60113cee8763b02d7&fileId=db3a30432313ff5e0123a3593b1425eb; ComponentLink3Description: Package Specification; ComponentLink3URL: http://www.infineon.com/dgdl/IPP028N08N3_Rev1%5B1%5D.0.pdf?folderId=db3a304313b8b5a60113cee8763b02d7&fileId=db3a30432313ff5e0123a3c08e7326b5
footprint INF-PG-TO220-3-1_A_V (FM, 3-Leads, Body 10.03x8.98mm, Pitch 2.54mm)
pins: 1 GATE, 2 DRAIN, 3 SOURCE

## IPP096N03L G
designator Q?
N-Channel OptiMOS 3 Power-Transistor, 30 V VDS, 35 A ID, -55 to 175 degC, PG-TO220-3-1, Tube, Green; Manufacturer: Infineon; PartNumber: IPP096N03L G; Green: TRUE; ID (max): 35 A; IDpuls (max): 140 A; Polarity: N; Ptot (max): 42 W; QG: 7 nC; RDS (on) (max): 9.6 mOhm; RDS (on) (max) (@4.5V): 14.1 mOhm; Rth: 3.6 K/W; RthJA (max): 62 K/W; RthJC (max): 3.6 K/W; VDS (max): 30 V; VGS(th) (max): 2.2 V; VGS(th) (min): 1 V; DatasheetVersion: Rev. 2.0; PackageVersion: Rev. 05, 08/2007; PackageReference: PG-TO220-3-1; PackageDescription: 3-Pin Plastic (Green) Transistor Single Outline Package, 10.03 x 8.98 mm Body, 2.54 mm Pitch; Supplier 1: Mouser; Supplier Part Number 1: 726-IPP096N03LG; Supplier 2: Newark; Supplier Part Number 2: 60R2751; Supplier 3: Farnell; Supplier Part Number 3: 1775639; Supplier 4: Digi-Key; Supplier Part Number 4: IPP096N03LGIN-ND; Halogen-free: TRUE; Packing: Tube; Mounting Technology: Through Hole; ComponentLink1Description: Manufacturer URL; ComponentLink1URL: http://www.infineon.com/; ComponentLink2Description: Datasheet; ComponentLink2URL: http://www.infineon.com/dgdl/IPP096N03L_rev2.pdf?folderId=db3a304313b8b5a60113cee8763b02d7&fileId=db3a30432313ff5e01239ed8ba8070dd; ComponentLink3Description: Package Specification; ComponentLink3URL: http://www.infineon.com/dgdl/IPP028N08N3_Rev1%5B1%5D.0.pdf?folderId=db3a304313b8b5a60113cee8763b02d7&fileId=db3a30432313ff5e0123a3c08e7326b5
footprint INF-PG-TO220-3-1_A_V (FM, 3-Leads, Body 10.03x8.98mm, Pitch 2.54mm)
pins: 1 GATE, 2 DRAIN, 3 SOURCE

## IPP100N04S2-04
designator Q?
OptiMOS Power-Transistor, 40 V VDS, 100 A ID, PG-TO220-3-1, Tube, Green; Manufacturer: Infineon; PartNumber: IPP100N04S2-04; Green: TRUE; ID (max): 100 A; IDpuls (max): 400 A; Ptot (max): 300 W; QG: 125 nC; RDS (on) (max) (@10V): 3.6 mOhm; RthJC (max): 0.5 K/W; VDS (max): 40 V; VGS(th) (max): 4 V; VGS(th) (min): 2.1 V; DatasheetVersion: Rev. 1.0; PackageVersion: Jul-12; PackageReference: PG-TO220-3-1; PackageDescription: 3-Pin Plastic (Green) Transistor Single Outline Package, 10 x 9.25 mm Body, 2.54 mm Pitch; Supplier 1: Mouser; Supplier Part Number 1: 726-IPP100N04S204; Supplier 2: Digi-Key; Supplier Part Number 2: IPP100N04S2-04-ND; Halogen-free: TRUE; Packing: Tube; Technology: OptiMOS; Mounting Technology: Through Hole; ComponentLink1Description: Manufacturer URL; ComponentLink1URL: http://www.infineon.com/; ComponentLink2Description: Datasheet; ComponentLink2URL: http://www.infineon.com/dgdl/IPP_B100N04S2-04_green.pdf?folderId=db3a304412b407950112b408e8c90004&fileId=db3a304412b407950112b42b7ecb452d&location=en.Products.Automotive_ICs.Automotive_MOSFETs.Single__N-Channel_40V_MOSFETs.DATASHEET.IPP_B100N04S2-04_green.pdf; ComponentLink3Description: Package Specification; ComponentLink3URL: http://www.infineon.com/dgdl/BTS117_DS_14.pdf?folderId=db3a30431400ef68011421b54e2e0564&fileId=db3a30433a747525013abff8302d549c&location=en.Products.Automotive_ICs.Smart_High-_and_Low-Side_Switches.HITFET___TEMPFET__-_Smart_Low-Side_Switches.DATASHEET.BTS117_DS_14.pdf
footprint INF-PG-TO220-3-1 (FM, 3-Leads, Body 10x4.4mm, Pitch 2.54mm)
pins: 1 GATE, 2 DRAIN, 3 SOURCE

## IPP100N04S2L-03
designator Q?
OptiMOS Power-Transistor, 40 V VDS, 100 A ID, PG-TO220-3-1, Tube, Green; Manufacturer: Infineon; PartNumber: IPP100N04S2L-03; Green: TRUE; ID (max): 100 A; IDpuls (max): 400 A; Ptot (max): 300 W; QG: 163 nC; RDS (on) (max) (@10V): 3.3 mOhm; RDS (on) (max) (@4.5V): 4.4 mOhm; RthJC (max): 0.5 K/W; VDS (max): 40 V; VGS(th) (max): 2 V; VGS(th) (min): 1.2 V; DatasheetVersion: Rev. 1.0; PackageVersion: Jul-12; PackageReference: PG-TO220-3-1; PackageDescription: 3-Pin Plastic (Green) Transistor Single Outline Package, 10 x 9.25 mm Body, 2.54 mm Pitch; Supplier 1: Mouser; Supplier Part Number 1: 726-IPP100N04S2L03; Supplier 2: Digi-Key; Supplier Part Number 2: IPP100N04S2L-03-ND; Halogen-free: TRUE; Packing: Tube; Technology: OptiMOS; Mounting Technology: Through Hole; ComponentLink1Description: Manufacturer URL; ComponentLink1URL: http://www.infineon.com/; ComponentLink2Description: Datasheet; ComponentLink2URL: http://www.infineon.com/dgdl/IPP_B100N04S2L-03_green.pdf?folderId=db3a304412b407950112b408e8c90004&fileId=db3a304412b407950112b42b9443455d&location=en.Products.Automotive_ICs.Automotive_MOSFETs.Single__N-Channel_40V_MOSFETs.DATASHEET.IPP_B100N04S2L-03_green.pdf; ComponentLink3Description: Package Specification; ComponentLink3URL: http://www.infineon.com/dgdl/BTS117_DS_14.pdf?folderId=db3a30431400ef68011421b54e2e0564&fileId=db3a30433a747525013abff8302d549c&location=en.Products.Automotive_ICs.Smart_High-_and_Low-Side_Switches.HITFET___TEMPFET__-_Smart_Low-Side_Switches.DATASHEET.BTS117_DS_14.pdf
footprint INF-PG-TO220-3-1 (FM, 3-Leads, Body 10x4.4mm, Pitch 2.54mm)
pins: 1 GATE, 2 DRAIN, 3 SOURCE

## IPP100N04S3-03
designator Q?
OptiMOS-T Power-Transistor, 40 V VDS, 100 A ID, PG-TO220-3-1, Tube, Green; Manufacturer: Infineon; PartNumber: IPP100N04S3-03; Green: TRUE; ID (max): 100 A; IDpuls (max): 400 A; Ptot (max): 214 W; QG: 110 nC; RDS (on) (max) (@10V): 2.8 mOhm; RthJC (max): 0.7 K/W; VDS (max): 40 V; VGS(th) (max): 4 V; VGS(th) (min): 2.1 V; DatasheetVersion: Rev. 1.0; PackageVersion: Jul-12; PackageReference: PG-TO220-3-1; PackageDescription: 3-Pin Plastic (Green) Transistor Single Outline Package, 10 x 9.25 mm Body, 2.54 mm Pitch; Supplier 1: Mouser; Supplier Part Number 1: 726-IPP100N04S3-03; Supplier 2: Digi-Key; Supplier Part Number 2: IPP100N04S3-03-ND; Halogen-free: TRUE; Packing: Tube; Technology: OptiMOS-T; Mounting Technology: Through Hole; ComponentLink1Description: Manufacturer URL; ComponentLink1URL: http://www.infineon.com/; ComponentLink2Description: Datasheet; ComponentLink2URL: http://www.infineon.com/dgdl/IPP_B_I100N04S3-03_DS_1_0.pdf?folderId=db3a304412b407950112b42b75b74520&fileId=db3a304412b407950112b42ba0e8457f&location=en.Products.Automotive_ICs.Automotive_MOSFETs.Single__N-Channel_40V_MOSFETs.DATASHEET.IPP_B_I100N04S3-03_DS_1_0.pdf; ComponentLink3Description: Package Specification; ComponentLink3URL: http://www.infineon.com/dgdl/BTS117_DS_14.pdf?folderId=db3a30431400ef68011421b54e2e0564&fileId=db3a30433a747525013abff8302d549c&location=en.Products.Automotive_ICs.Smart_High-_and_Low-Side_Switches.HITFET___TEMPFET__-_Smart_Low-Side_Switches.DATASHEET.BTS117_DS_14.pdf
footprint INF-PG-TO220-3-1 (FM, 3-Leads, Body 10x4.4mm, Pitch 2.54mm)
pins: 1 GATE, 2 DRAIN, 3 SOURCE

## IPP100N04S4-03D
designator Q?
OptiMOS-T2 Power-Transistor, 40 V VDS, 100 A ID, PG-TO220-3-1, Tube, Green; Manufacturer: Infineon; PartNumber: IPP100N04S4-03D; Green: TRUE; ID (max): 100 A; IDpuls (max): 400 A; Ptot (max): 231 mW; QG: 69 nC; RDS (on) (max) (@10V): 2.5 mOhm; RthJC (max): 0.65 K/W; VDS (max): 40 V; VGS(th) (max): 4 V; VGS(th) (min): 2 V; DatasheetVersion: Rev. 1.0; PackageVersion: Jul-12; PackageReference: PG-TO220-3-1; PackageDescription: 3-Pin Plastic (Green) Transistor Single Outline Package, 10 x 9.25 mm Body, 2.54 mm Pitch; Halogen-free: TRUE; Packing: Tube; Technology: OptiMOS-T2; Mounting Technology: Through Hole; ComponentLink1Description: Manufacturer URL; ComponentLink1URL: http://www.infineon.com/; ComponentLink2Description: Datasheet; ComponentLink2URL: http://www.infineon.com/dgdl/IPP_B_I100N04S4-03D_DS_1_0.pdf?folderId=db3a304412b407950112b42b75b74520&fileId=db3a304333227b5e0133266164b72ef7&location=en.Products.Automotive_ICs.Automotive_MOSFETs.Single__N-Channel_40V_MOSFETs.DATASHEET.IPP_B_I100N04S4-03D_DS_1_0.pdf; ComponentLink3Description: Package Specification; ComponentLink3URL: http://www.infineon.com/dgdl/BTS117_DS_14.pdf?folderId=db3a30431400ef68011421b54e2e0564&fileId=db3a30433a747525013abff8302d549c&location=en.Products.Automotive_ICs.Smart_High-_and_Low-Side_Switches.HITFET___TEMPFET__-_Smart_Low-Side_Switches.DATASHEET.BTS117_DS_14.pdf
footprint INF-PG-TO220-3-1 (FM, 3-Leads, Body 10x4.4mm, Pitch 2.54mm)
pins: 1 GATE, 2 DRAIN, 3 SOURCE

## IPP100N04S4-H2
designator Q?
OptiMOS-T2 Power-Transistor, 40 V VDS, 100 A ID, PG-TO220-3-1, Tube, Green; Manufacturer: Infineon; PartNumber: IPP100N04S4-H2; Green: TRUE; ID (max): 100 A; IDpuls (max): 400 A; Ptot (max): 115 W; QG: 70 nC; RDS (on) (max) (@10V): 2.7 mOhm; RthJC (max): 1.3 K/W; VDS (max): 40 V; VGS(th) (max): 4 V; VGS(th) (min): 2 V; DatasheetVersion: Rev. 1.0; PackageVersion: Jul-12; PackageReference: PG-TO220-3-1; PackageDescription: 3-Pin Plastic (Green) Transistor Single Outline Package, 10 x 9.25 mm Body, 2.54 mm Pitch; Supplier 1: Mouser; Supplier Part Number 1: 726-IPP100N04S4-H2; Supplier 2: Digi-Key; Supplier Part Number 2: IPP100N04S4-H2-ND; Halogen-free: TRUE; Packing: Tube; Technology: OptiMOS-T2; Mounting Technology: Through Hole; ComponentLink1Description: Manufacturer URL; ComponentLink1URL: http://www.infineon.com/; ComponentLink2Description: Datasheet; ComponentLink2URL: http://www.infineon.com/dgdl/IPP_B_I100N04S4-H2_DS_10.pdf?folderId=db3a304412b407950112b42b75b74520&fileId=db3a304328c6bd5c01291c2758925d17&location=en.Products.Automotive_ICs.Automotive_MOSFETs.Single__N-Channel_40V_MOSFETs.DATASHEET.IPP_B_I100N04S4-H2_DS_10.pdf; ComponentLink3Description: Package Specification; ComponentLink3URL: http://www.infineon.com/dgdl/BTS117_DS_14.pdf?folderId=db3a30431400ef68011421b54e2e0564&fileId=db3a30433a747525013abff8302d549c&location=en.Products.Automotive_ICs.Smart_High-_and_Low-Side_Switches.HITFET___TEMPFET__-_Smart_Low-Side_Switches.DATASHEET.BTS117_DS_14.pdf
footprint INF-PG-TO220-3-1 (FM, 3-Leads, Body 10x4.4mm, Pitch 2.54mm)
pins: 1 GATE, 2 DRAIN, 3 SOURCE